# Altium footprint library Chess Clock Front Display.PcbLib: 8 footprints
Each footprint in its own frame and in the unit in brackets; x right, y up, seen from the top. Pads: shape width x height; smd on the part's side, far side on the other; paste and mask are expansions set on the pad; w line width, h text height; cw(c..) or ccw(c..) is an arc to the next point about the centre after c.
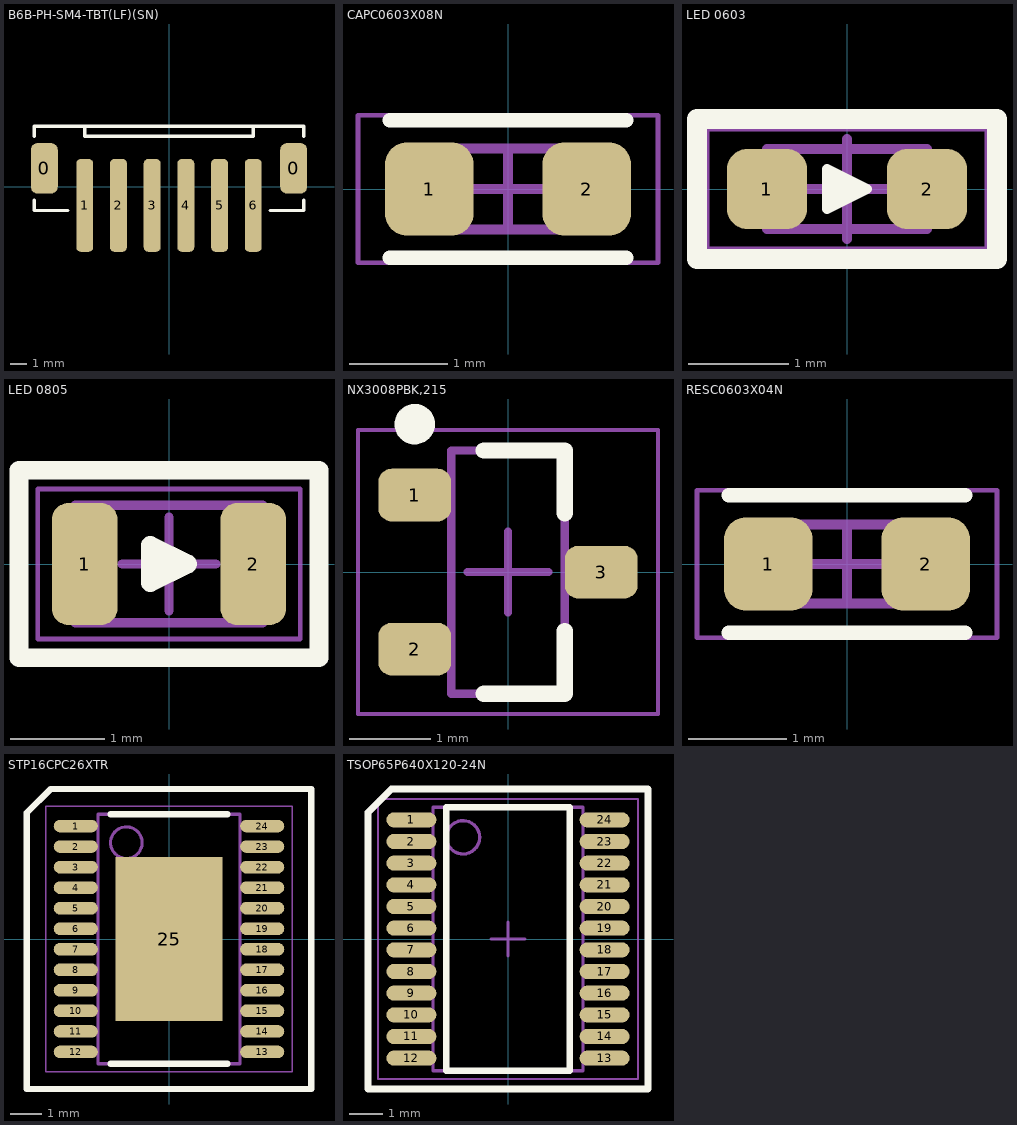
[diagram p0: the footprints below, top view; thin cyan lines are the x and y axes]

## B6B-PH-SM4-TBT(LF)(SN) [mm] "CONN HEADER SMD 6POS 2MM"
pads (8):
  rrect50% 1.6x3 smd: 0(-7.4,1.1) 0(7.4,1.1)
  rrect50% 1x5.5 smd: 1(-5,-1.1) 2(-3,-1.1) 3(-1,-1.1) 4(1,-1.1) 5(3,-1.1) 6(5,-1.1)
Top Overlay:
  lines w0.2: -8,-0.8 -8,-1.4 -6,-1.4 ; -8,3 -8,3.6 8,3.6 8,3 ; -5,3.6 -5,3 5,3 5,3.6 ; 6,-1.4 8,-1.4 8,-0.8

## CAPC0603X08N [mm] "Chip Capacitor, 2-Leads, Body 1.60x0.80mm, IPC Medium Density"
height 0.8
pads (2):
  rrect50% 0.9x0.95 smd: 1(-0.8,0) 2(0.8,0)
Top Overlay:
  lines w0.15: -1.2,-0.7 1.2,-0.7 ; -1.2,0.7 1.2,0.7
Top Assembly:
  lines w0.1: -0.8,-0.412 0.8,-0.412 0.8,0.412 -0.8,0.412 -0.8,-0.412
  text "'.Designator'" at -1.451,-0.136 h0.6
Top Courtyard:
  lines w0.05: -1.525,-0.75 1.525,-0.75 1.525,0.75 -1.525,0.75 -1.525,-0.75
  lines w0.1: -0.4,0 0.4,0 ; 0,-0.4 0,0.4
3D body "CAP 0603.STEP": height 0.84, standoff 0.01, extent -0.8,-0.412 0.8,0.412

## LED 0603 [mm] "LED 0603"
pads (2):
  rrect50% 0.8x0.8 smd: 1(-0.8,0) 2(0.8,0)
Top Overlay:
  region: -0.2,0.2 -0.2,-0.2 0.2,0
  lines w0.1: -0.2,-0.2 -0.2,0.2 0.2,0 -0.2,-0.2
  lines w0.2: -1.5,-0.7 1.5,-0.7 1.5,0.7 -1.5,0.7 -1.5,-0.7
Top Assembly:
  lines w0.1: -0.8,-0.4 -0.8,0.4 0.8,0.4 0.8,-0.4 -0.8,-0.4
  text "'.Designator'" at -1.451,-0.136 h0.6
Top Courtyard:
  lines w0.05: -1.4,-0.6 1.4,-0.6 1.4,0.6 -1.4,0.6 -1.4,-0.6
  lines w0.1: -0.5,0 0.5,0 ; 0,-0.5 0,0.5
3D body "LED 0603 Base WHITE.STEP": height 0.29, standoff 0.01, extent -0.8,-0.4 0.8,0.4

## LED 0805 [mm] "LED 0805"
pads (2):
  rrect50% 0.7x1.3 smd: 1(-0.9,0) 2(0.9,0)
Top Overlay:
  region: -0.2,0.2 -0.2,-0.2 0.2,0
  lines w0.2: -1.6,-1 -1.6,1 1.6,1 1.6,-1 -1.6,-1 ; -0.2,-0.2 0.2,0 -0.2,0.2 -0.2,-0.2
Top Assembly:
  lines w0.1: -1,-0.625 1,-0.625 1,0.625 -1,0.625 -1,-0.625
  text "'.Designator'" at -1.451,-0.136 h0.6
Top Courtyard:
  lines w0.05: -1.4,-0.8 -1.4,0.8 1.4,0.8 1.4,-0.8 -1.4,-0.8
  lines w0.1: -0.5,0 0.5,0 ; 0,-0.5 0,0.5
3D body "LED 0805 Base WHITE.STEP": height 0.41, standoff 0.01, extent -1,-0.625 1,0.625

## NX3008PBK,215 [mm] "SOT23, 3-Leads, Body 2.90x2.30mm, Pitch 0.95mm, IPC Medium Density"
height 1.1
pads (3):
  rrect50% 0.9x0.65 smd: 1(-1.15,0.95) 2(-1.15,-0.95) 3(1.15,0)
Top Overlay:
  circle w0.25: c-1.15,1.825 r0.125
  lines w0.2: -0.3,-1.5 0.7,-1.5 0.7,-0.725 ; -0.3,1.5 0.7,1.5 0.7,0.725
Top Assembly:
  lines w0.1: -0.7,-1.5 0.7,-1.5 0.7,1.5 -0.7,1.5 -0.7,-1.5
  text "'.Designator'" at 0.226,-2.416 h1
Top Courtyard:
  lines w0.05: -1.85,-1.75 1.85,-1.75 1.85,1.75 -1.85,1.75 -1.85,-1.75
  lines w0.1: -0.5,0 0.5,0 ; 0,-0.5 0,0.5
3D body "SOT95P230X110-3N.step": height 1.1, standoff 0, extent -1.3,-1.5 1.3,1.5

## RESC0603X04N [mm] "Chip Resistor, 2-Leads, Body 1.60x0.80mm, IPC Medium Density"
height 0.45
pads (2):
  rrect50% 0.9x0.95 smd: 1(-0.8,0) 2(0.8,0)
Top Overlay:
  lines w0.15: -1.2,-0.7 1.2,-0.7 ; -1.2,0.7 1.2,0.7
Top Assembly:
  lines w0.1: -0.8,-0.4 -0.8,0.4 0.8,0.4 0.8,-0.4 -0.8,-0.4
  text "'.Designator'" at -1.451,-0.136 h0.6
Top Courtyard:
  lines w0.05: -1.525,-0.75 -1.525,0.75 1.525,0.75 1.525,-0.75 -1.525,-0.75
  lines w0.1: -0.4,0 0.4,0 ; 0,-0.4 0,0.4
3D body "RES 0603.STEP": height 0.46, standoff 0.01, extent -0.8,-0.4 0.8,0.4

## STP16CPC26XTR [mm] "TSOP, 24-Leads, Body 7.80x4.40mm, Pitch 0.65mm, Thermal Pad 5.20x3.40mm, IPC Medium Density"
height 1.2
pads (25):
  oval 1.4x0.4 smd: 1(-2.95,3.575) 2(-2.95,2.925) 3(-2.95,2.275) 4(-2.95,1.625) 5(-2.95,0.975) 6(-2.95,0.325) 7(-2.95,-0.325) 8(-2.95,-0.975) 9(-2.95,-1.625) 10(-2.95,-2.275) 11(-2.95,-2.925) 12(-2.95,-3.575) 13(2.95,-3.575) 14(2.95,-2.925) 15(2.95,-2.275) 16(2.95,-1.625) 17(2.95,-0.975) 18(2.95,-0.325) 19(2.95,0.325) 20(2.95,0.975) 21(2.95,1.625) 22(2.95,2.275) 23(2.95,2.925) 24(2.95,3.575)
  rect 3.4x5.2 smd: 25(0,0)
Top Overlay:
  lines w0.2: -1.85,-3.95 1.85,-3.95 ; -1.85,3.95 1.85,3.95 ; -4.5,-4.75 -4.5,4 -3.75,4.75 4.5,4.75 4.5,-4.75 -4.5,-4.75
Top Assembly:
  circle w0.1: c-1.35,3.05 r0.5
  lines w0.1: -2.25,-3.95 -2.25,3.95 2.25,3.95 2.25,-3.95 -2.25,-3.95
  text "'.Designator'" at 0.452,-4.831 h2
Top Courtyard:
  lines w0.05: -3.9,-4.2 -3.9,4.2 3.9,4.2 3.9,-4.2 -3.9,-4.2
  lines w0.1: -0.5,0 0.5,0 ; 0,-0.5 0,0.5
3D body "TSOP65P640X120_HS-25N.step": height 1.2, standoff 0, extent -3.2,-3.95 3.2,3.95

## TSOP65P640X120-24N [mm] "TSOP, 24-Leads, Body 7.80x4.40mm, Pitch 0.65mm, IPC Medium Density"
height 1.2
pads (24):
  oval 1.5x0.45 smd: 1(-2.9,3.575) 2(-2.9,2.925) 3(-2.9,2.275) 4(-2.9,1.625) 5(-2.9,0.975) 6(-2.9,0.325) 7(-2.9,-0.325) 8(-2.9,-0.975) 9(-2.9,-1.625) 10(-2.9,-2.275) 11(-2.9,-2.925) 12(-2.9,-3.575) 13(2.9,-3.575) 14(2.9,-2.925) 15(2.9,-2.275) 16(2.9,-1.625) 17(2.9,-0.975) 18(2.9,-0.325) 19(2.9,0.325) 20(2.9,0.975) 21(2.9,1.625) 22(2.9,2.275) 23(2.9,2.925) 24(2.9,3.575)
Top Overlay:
  lines w0.2: -4.2,-4.5 4.2,-4.5 4.2,4.5 -3.5,4.5 -4.2,3.8 -4.2,-4.5 ; -1.85,-3.95 -1.85,3.95 1.85,3.95 1.85,-3.95 -1.85,-3.95
Top Assembly:
  circle w0.1: c-1.35,3.05 r0.5
  lines w0.1: -2.25,-3.95 -2.25,3.95 2.25,3.95 2.25,-3.95 -2.25,-3.95
  text "'.Designator'" at 0.452,-4.831 h2
Top Courtyard:
  lines w0.05: -3.9,-4.2 -3.9,4.2 3.9,4.2 3.9,-4.2 -3.9,-4.2
  lines w0.1: -0.5,0 0.5,0 ; 0,-0.5 0,0.5
3D body "TSOP65P640X120-24N.step": height 1.2, standoff 0, extent -3.2,-3.95 3.2,3.95